# Altium schematic symbol library TIDA-PowerNBIoT.SCHLIB: 46 symbols
Pins are listed as number, name and electrical type; pins without a type are passive.

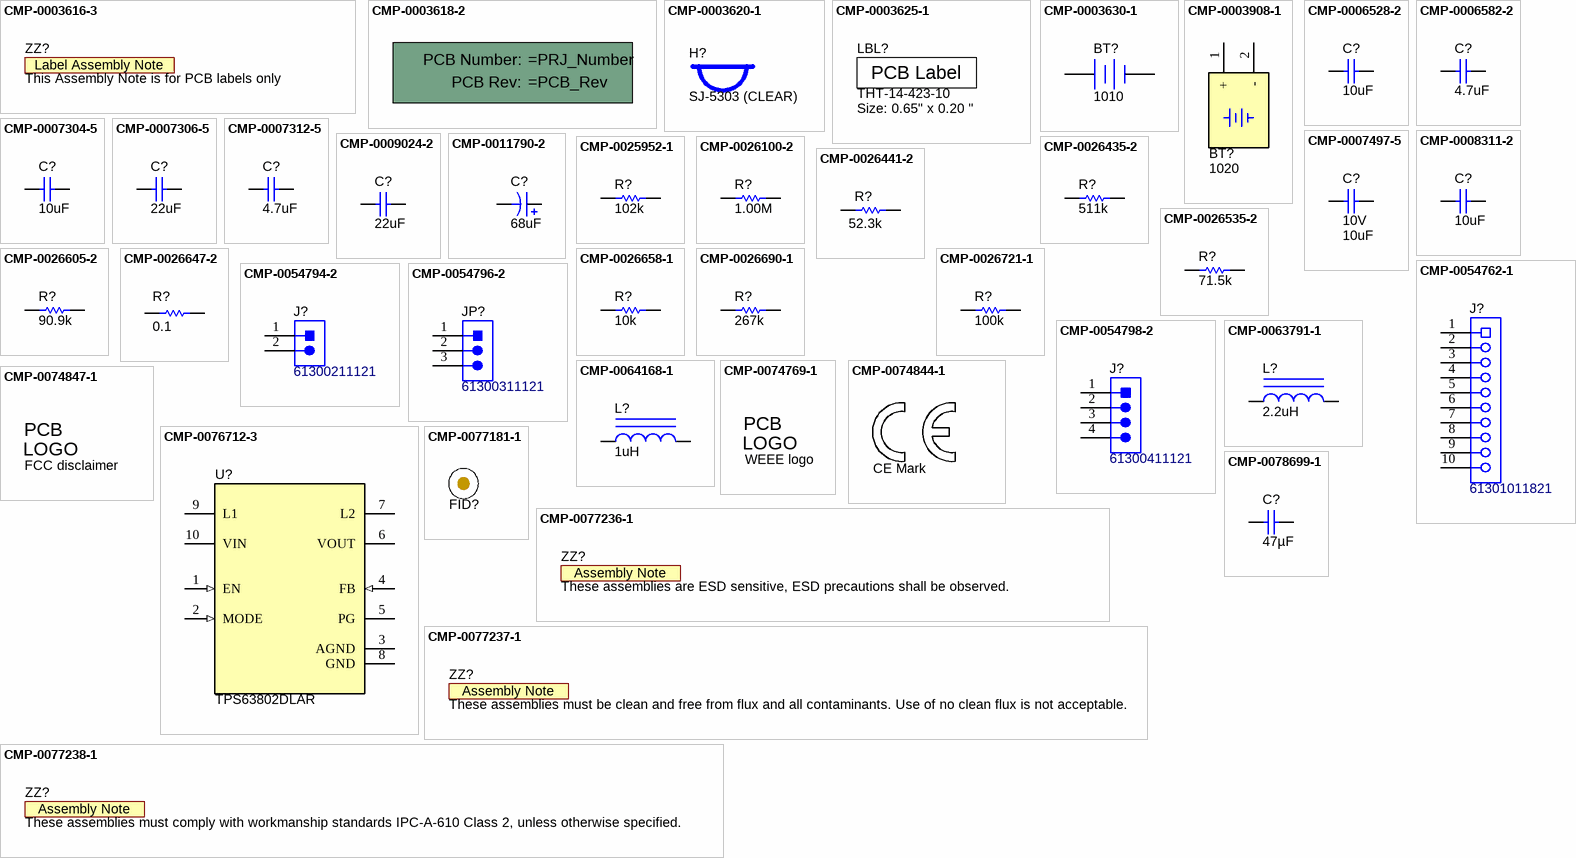
[diagram p0: symbols CMP-0003616-3 to CMP-0078699-1]

## CMP-0003616-3
designator ZZ?, comment This Assembly Note is for PCB labels only  (no BOM)
Key: AssemblyNoteLabel; CompType: AssemblyNote; ClassName: AssemblyNote; Publisher: Texas Instruments; LatestRevisionDate: 2017-03-09
footprint AssemblyNoteLabel (Assembly Note for PCB Labels)
text: Label Assembly Note

## CMP-0003618-2
designator !PCB?, comment Printed Circuit Board  (value not drawn)  (mechanical)
Manufacturer: Any; CompType: PCB; PartNumber: =PRJ_Number; RoHS: O; MountType: N/A; Publisher: Texas Instruments; LatestRevisionDate: 2017-03-09; Key: PCB
1 alternate drawing of the same symbol
text: PCB Number:; PCB Rev:

## CMP-0003620-1
designator H?, comment SJ-5303 (CLEAR)
Bumpon, Hemisphere, 0.44 X 0.20, Clear; Manufacturer: 3M; CompType: Bumpon; PartNumber: SJ-5303 (CLEAR); RoHS: Y; PackageReference: Transparent Bumpon; MountType: N/A; ComponentLink1Description: Datasheet Link; ComponentLink1URL: http://multimedia.mmm.com/mws/mediawebserver.dyn?6666660Zjcf6lVs6EVs666cIsCOrrrrQ-; Publisher: Texas Instruments; LatestRevisionDate: 2017-03-09; Supplier 1: Digi-Key; Supplier Part Number 1: SJ5303-7-ND; Supplier 2: Newark; Supplier Part Number 2: 23M7326; Supplier 3: Mouser; Supplier Part Number 3: 517-SJ-5303CL; Key: SJ-5303 (CLEAR)
footprint Bumpon_SJ5003Transparent (3M Hemispherical Bumpon transparent)

## CMP-0003625-1
designator LBL?, comment THT-14-423-10  Note: Size: 0.65" x 0.20 "
Thermal Transfer Printable Labels, 0.650" W x 0.200" H - 10,000 per roll; Manufacturer: Brady; CompType: Label; ClassName: Label; PartNumber: THT-14-423-10; RoHS: Y; PackageReference: PCB Label 0.650 x 0.200 inch; MountType: N/A; ComponentLink1Description: Web Page; ComponentLink1URL: http://www.bradyid.com/bradyid/pdpv/THT-14-423-10.html; Publisher: Texas Instruments; LatestRevisionDate: 2017-03-09; Supplier 1: Newark; Supplier Part Number 1: 97C5133; Supplier 2: Farnell; Supplier Part Number 2: 2065596; Key: THT-14-423-10
footprint Label_650x200 (Thermal Transfer Label)
text: PCB Label

## CMP-0003630-1
designator BT?, comment 1010
Battery Holder, Nylon, CR2, SMT; Manufacturer: Keystone; ComponentLink1URL: http://www.keyelco.com/userAssets/store/files/1010.pdf; Key: 1010; Publisher: Texas Instruments; Supplier Part Number 2: 534-1010; Supplier 1: Digi-Key; CompType: Battery Holder; PackageReference: Battery holder; LatestRevisionDate: 2017-03-09; RoHS: Y; Supplier Part Number 1: 36-1010-ND; MountType: SMT; Supplier 2: Mouser; PartNumber: 1010; ComponentLink1Description: Datasheet Link
footprint BAT_1010 (Keystone)
pins: 1 +, 2 -

## CMP-0003908-1
designator BT?, comment 1020
HOLDER BATTERY AAA, SMT; Manufacturer: Keystone; CompType: Battery Holder; ComponentLink1URL: http://www.keyelco.com/product-pdf.cfm?p=934; Key: 1020; Publisher: Texas Instruments; Supplier Part Number 2: 57R3959; Supplier 3: Mouser; Supplier 1: Digi-Key; PackageReference: HOLDER BATTERY AAA, SMT; LatestRevisionDate: 2017-03-09; RoHS: Y; Supplier Part Number 1: 36-1020-ND; Supplier Part Number 3: 534-1020; Supplier 2: Newark; MountType: SMT; PartNumber: 1020; ComponentLink1Description: Datasheet Link
footprint Keystone_1020 (HOLDER BATTERY AAA, SMT)
pins: 1 +, 2 -

## CMP-0006528-2
designator C?, comment ValueDisplayed: 10uF  (hidden comment: GRM155R60G106ME44D)
CAP, CERM, 10 uF, 4 V, +/- 20%, X5R, 0402; Manufacturer: MuRata; TaMin_C: -55°C; Polarized: N; SizeAreaWB_mm2: 3; Value1: Unknown; U/M: EA; Value: 10uF; TaMax_C: 85°C; SizeZ_mm: 0.7; SizeX_mm: 1; SizeY_mm: 0.5; Cap_Case: 0402; Value2: 4V; CompType: Capacitor; Cap_F: 10µF; AEC Category: Q200; Supplier Part Number 2: 81-GRM155R60G106ME4D; Publisher: Texas Instruments; Supplier 2: Mouser; TempCo: X5R; Published: 2008-06-19; RoHS: Y; MountType: SMT; Supplier 1: Digi-Key; PackageReference: 0402; Tolerance_%: 20%; SizeArea_mm2: 0.5; LatestRevisionDate: 2017-03-09; PartNumber: GRM155R60G106ME44D; AEC Qualified: N; VDC_V: 4V; ComponentLink1Description: Datasheet link; AEC Grade: N/A; Supplier Part Number 1: GRM155R60G106ME44D-ND; Technology: Ceramic; ComponentLink1URL: http://psearch.murata.com/capacitor/product/GRM155R60G106ME44%23.pdf
footprint 0402_070 (SMD, 2-Leads, Body 1.2x0.7mm, Height 0.7mm)
pins: 1, 2

## CMP-0006582-2
designator C?, comment ValueDisplayed: 4.7uF  (hidden comment: GRM155R61A475MEAAD)
CAP, CERM, 4.7 uF, 10 V, +/- 20%, X5R, 0402; Manufacturer: MuRata; TaMin_C: -55°C; Polarized: N; SizeAreaWB_mm2: 3; Value1: Unknown; U/M: EA; Value: 4.7uF; TaMax_C: 85°C; SizeZ_mm: 0.6; SizeX_mm: 1; SizeY_mm: 0.5; Cap_Case: 0402; Value2: 10V; CompType: Capacitor; Cap_F: 4.7µF; AEC Category: Q200; Publisher: Texas Instruments; TempCo: X5R; Published: 2008-06-19; RoHS: Y; MountType: SMT; PackageReference: 0402; Tolerance_%: 20%; SizeArea_mm2: 0.5; LatestRevisionDate: 2017-03-09; PartNumber: GRM155R61A475MEAAD; AEC Qualified: N; VDC_V: 10V; ComponentLink1Description: Datasheet link; AEC Grade: N/A; Technology: Ceramic; ComponentLink1URL: http://search.murata.co.jp/Ceramy/image/img/A01X/G101/ENG/GRM155R61A475MEAA-01.pdf
footprint 0402 (0402 from SM-752 data)
footprint 0402S (Based on C0402S footprint from PADS legacy)
footprint 0402L (0402 from SM-752 data)
footprint 0402M (0402 from SM-752 data)
pins: 1, 2

## CMP-0007304-5
designator C?, comment ValueDisplayed: 10uF  (hidden comment: Capacitor)
CAP, CERM, 10 uF, 6.3 V, +/- 20%, X5R, 0603; PartNumber: GRM188R60J106ME84; Manufacturer: MuRata; Polarized: N; Value: 10uF; U/M: EA; Cap_F: 10µF; Value1: Unknown; VDC_V: 6.3V; TaMin_C: -55°C; TaMax_C: 85°C; Cap_Case: 0603; SizeArea_mm2: 1.28; SizeAreaWB_mm2: 4.68; SizeX_mm: 1.6; SizeY_mm: 0.8; SizeZ_mm: 1; AEC Category: Q200; CompType: Capacitor; PackageReference: 0603; RoHS: Y; Tolerance_%: 20%; Value2: 6.3V; MountType: SMT; Technology: Ceramic; TempCo: X5R; Published: 2008-06-19; Publisher: Texas Instruments; LatestRevisionDate: 2017-03-09; ComponentLink1Description: Datasheet link; ComponentLink1URL: http://search.murata.co.jp/Ceramy/image/img/A01X/G101/ENG/GRM188R60J106ME84-01.pdf; Supplier 1: Digi-Key; Supplier Part Number 1: 490-7316-1-ND; AEC Qualified: ?
footprint 0603 (0603 from SM-752 data)
footprint 0603_HV (Ernesto recommended land pattern.  26 mil between pads.)
footprint 0603L (0603 from SM-752 data)
footprint 0603S
footprint 0603M (0603 from SM-752 data)
pins: 1, 2

## CMP-0007306-5
designator C?, comment ValueDisplayed: 22uF  (hidden comment: Capacitor)
CAP, CERM, 22 uF, 6.3 V, +/- 20%, X5R, 0603; PartNumber: GRM188R60J226MEA0D; Manufacturer: MuRata; Polarized: N; Value: 22uF; U/M: EA; Cap_F: 22µF; Value1: Unknown; VDC_V: 6.3V; TaMin_C: -55°C; TaMax_C: 85°C; Cap_Case: 0603; SizeArea_mm2: 1.28; SizeAreaWB_mm2: 4.68; SizeX_mm: 1.6; SizeY_mm: 0.8; SizeZ_mm: 1; AEC Category: Q200; CompType: Capacitor; PackageReference: 0603; RoHS: Y; Tolerance_%: 20%; Value2: 6.3V; MountType: SMT; Technology: Ceramic; TempCo: X5R; Published: 2008-06-19; Publisher: Texas Instruments; LatestRevisionDate: 2017-03-09; ComponentLink1Description: Datasheet link; ComponentLink1URL: http://search.murata.co.jp/Ceramy/image/img/A01X/G101/ENG/GRM188R60J226MEA0-01.pdf; Supplier 1: Digi-Key; Supplier Part Number 1: 490-7611-1-ND; Supplier 2: Newark; Supplier Part Number 2: 55Y9854; Supplier 3: Mouser; Supplier Part Number 3: 81-GRM188R60J226ME0D; AEC Qualified: N; AEC Grade: N/A
footprint 0603 (0603 from SM-752 data)
footprint 0603_HV (Ernesto recommended land pattern.  26 mil between pads.)
footprint 0603L (0603 from SM-752 data)
footprint 0603S
footprint 0603M (0603 from SM-752 data)
pins: 1, 2

## CMP-0007312-5
designator C?, comment ValueDisplayed: 4.7uF  (hidden comment: GRM188R60J475ME19D)
CAP, CERM, 4.7 uF, 6.3 V, +/- 20%, X5R, 0603; Manufacturer: MuRata; Polarized: N; CompType: Capacitor; Value: 4.7uF; U/M: EA; Cap_F: 4.7µF; ESR_ohm: 1m; Value1: 0.001 ohm; VDC_V: 6.3V; TaMin_C: -55°C; TaMax_C: 85°C; Cap_Case: 0603; SizeArea_mm2: 1.28; SizeAreaWB_mm2: 4.68; SizeX_mm: 1.6; SizeY_mm: 0.8; SizeZ_mm: 1; AEC Category: Q200; PartNumber: GRM188R60J475ME19D; PackageReference: 0603; RoHS: Y; Tolerance_%: 20%; Value2: 6.3V; MountType: SMT; Technology: Ceramic; TempCo: X5R; Published: 2008-06-19; Publisher: Texas Instruments; LatestRevisionDate: 2017-03-09; ComponentLink1Description: Datasheet link; ComponentLink1URL: http://search.murata.co.jp/Ceramy/image/img/PDF/ENG/GRM188R60J475ME19.pdf; Supplier 1: Digi-Key; Supplier Part Number 1: 490-5421-1-ND; Supplier 2: Mouser; Supplier Part Number 2: 81-GRM188R60J475ME9D; AEC Qualified: ?
footprint 0603 (0603 from SM-752 data)
footprint 0603_HV (Ernesto recommended land pattern.  26 mil between pads.)
footprint 0603L (0603 from SM-752 data)
footprint 0603S
footprint 0603M (0603 from SM-752 data)
pins: 1, 2

## CMP-0007497-5
designator C?, comment VDC_V: 10V  ValueDisplayed: 10uF  (hidden comment: GRM188Z71A106MA73D)
CAP, CERM, 10 uF, 10 V, +/- 20%, X7R, 0603; Manufacturer: MuRata; TaMin_C: -55°C; Polarized: N; SizeAreaWB_mm2: 4.68; Value1: Unknown; U/M: EA; Value: 10uF; TaMax_C: 125°C; SizeZ_mm: 1; SizeX_mm: 1.6; SizeY_mm: 0.8; Cap_Case: 0603; SizeArea_mm2: 1.28; CompType: Capacitor; Cap_F: 10µF; AEC Category: Q200; Publisher: Texas Instruments; TempCo: X7R; Published: 2008-06-19; RoHS: Y; MountType: SMT; Supplier 1: Mouser; PackageReference: 0603; Tolerance_%: 20%; Value2: 10V; LatestRevisionDate: 2017-03-09; PartNumber: GRM188Z71A106MA73D; AEC Qualified: N; ComponentLink1Description: Datasheet link; AEC Grade: N/A; Supplier Part Number 1: 81-GRM188Z71A106MA3D; Technology: Ceramic; ComponentLink1URL: http://psearch.en.murata.com/capacitor/product/GRM188Z71A106MA73%23.pdf
footprint 0603 (0603 from SM-752 data)
footprint 0603_HV (Ernesto recommended land pattern.  26 mil between pads.)
footprint 0603L (0603 from SM-752 data)
footprint 0603S
footprint 0603M (0603 from SM-752 data)
pins: 1, 2

## CMP-0008311-2
designator C?, comment ValueDisplayed: 10uF  (hidden comment: GRM21BR70J106KE76L)
CAP, CERM, 10 uF, 6.3 V, +/- 10%, X7R, 0805; Manufacturer: MuRata; Polarized: N; CompType: Capacitor; Value: 10uF; U/M: EA; Cap_F: 10µF; Value1: Unknown; VDC_V: 6.3V; TaMin_C: -55°C; TaMax_C: 125°C; Cap_Case: 0805; SizeArea_mm2: 2.5; SizeAreaWB_mm2: 6.75; SizeX_mm: 2; SizeY_mm: 1.25; SizeZ_mm: 1.45; AEC Category: Q200; PartNumber: GRM21BR70J106KE76L; PackageReference: 0805; RoHS: Y; Tolerance_%: 10%; Value2: 6.3V; MountType: SMT; Technology: Ceramic; TempCo: X7R; Published: 2008-06-19; Publisher: Texas Instruments; LatestRevisionDate: 2017-03-09; ComponentLink1Description: Datasheet link; ComponentLink1URL: http://search.murata.co.jp/Ceramy/PnsearchViewAction.do?HnOFG=ON&HnNFG=ON&SEL_CNT=50&sLang=en&sKey=GRM21BR70J106KE76L&x=9&y=9&search=startwith; Supplier 1: Digi-Key; Supplier Part Number 1: 490-3904-1-ND; Supplier 2: Mouser; Supplier Part Number 2: 81-GRM21BR70J106KE76; Supplier 3: Farnell; Supplier Part Number 3: 1845768; AEC Qualified: ?
footprint 0805_HV (0805 with 30mil clearance between pads)
footprint 0805M (0805 from SM-752 data)
footprint 0805 (0805 from SM-752 data)
footprint 0805L (0805 from SM-752 data)
footprint 0805_HV1 (Custom footprint based on analyzing multiple manufacturer recommendations)
pins: 1, 2

## CMP-0009024-2
designator C?, comment ValueDisplayed: 22uF  (hidden comment: Capacitor)
CAP, CERM, 22 uF, 25 V, +/- 20%, X5R, 1206_190; PartNumber: TMK316BBJ226ML-T; Manufacturer: Taiyo Yuden; Polarized: N; Value: 22uF; U/M: EA; Cap_F: 22µF; Value1: Unknown; VDC_V: 25V; TaMin_C: -55°C; TaMax_C: 85°C; Cap_Case: 1206; AEC Category: Q200; SizeArea_mm2: 5.12; SizeAreaWB_mm2: 10.92; SizeX_mm: 3.2; SizeY_mm: 1.6; SizeZ_mm: 1.9; CompType: Capacitor; PackageReference: 1206_190; RoHS: Y; Tolerance_%: 20%; Value2: 25V; MountType: SMT; Technology: Ceramic; TempCo: X5R; Published: 2008-06-19; Publisher: Texas Instruments; LatestRevisionDate: 2017-03-09; ComponentLink1Description: Datasheet link; ComponentLink1URL: http://www.yuden.co.jp/productdata/catalog/en/mlcc_all_e.pdf; Supplier 1: Digi-Key; Supplier Part Number 1: 587-3246-1-ND; Supplier 2: Newark; Supplier Part Number 2: 29X1397; Supplier 3: Mouser; Supplier Part Number 3: 963-TMK316BBJ226ML-T; AEC Grade: N/A; AEC Qualified: N
footprint 1206_190
footprint 1206_190L (1206_190)
footprint 1206_190M (1206_190)
pins: 1, 2

## CMP-0011790-2
designator C?, comment ValueDisplayed: 68uF  (hidden comment: Cap_Polarized)
CAP, TA, 68 uF, 20 V, +/- 10%, 0.15 ohm, SMD; PartNumber: T495D686K020ATE150; Manufacturer: Kemet; Polarized: Y; CompType: Capacitor; Value: 68uF; U/M: EA; Cap_F: 68µF; VDC_V: 20V; ESR_ohm: 1.5d; IRMS_A: 9dA; TaMin_C: -55°C; TaMax_C: 125°C; Cap_Case: D; AEC Category: Q200; SizeArea_mm2: 31.39; SizeAreaWB_mm2: 58.59; SizeX_mm: 7.3; SizeY_mm: 4.3; SizeZ_mm: 3.1; PackageReference: 7343-31; RoHS: Y; Tolerance_%: 10%; Value1: 0.15 ohm; Value2: 20V; MountType: SMT; Technology: TA; Series: T495; Publisher: Texas Instruments; LatestRevisionDate: 2017-03-09; LatestRevisionNote: Updated supplier links; ComponentLink1Description: Datasheet link; ComponentLink1URL: http://www.kemet.com/Lists/ProductCatalog/Attachments/261/KEM_T2009_T495.pdf; Supplier 1: Digi-Key; Supplier Part Number 1: 399-3890-1-ND; Supplier 2: Newark; Supplier Part Number 2: 40K1101; Supplier 3: Mouser; Supplier Part Number 3: 80-T495D686K20ATE150; AEC Qualified: ?
footprint 7343-31 (Medium Density based on Kemet T495 dimensions)
pins: 1 +, 2 -

## CMP-0025952-1
designator R?, comment ValueDisplayed: 102k  (hidden comment: CRCW0402102KFKED)
RES, 102 k, 1%, 0.063 W, 0402; Manufacturer: Vishay-Dale; Power_W: 63mW; TempCo: 100 ppm/C; U/M: EA; Value: 102k; EIA_Code: E96; SizeX_mm: 1; SizeY_mm: 0.5; SizeZ_mm: 0.6; Value2: 0.063W; CompType: Resistor; VDC_V: 50V; AEC Category: Q200; ComponentLink1URL: http://www.vishay.com/docs/20035/dcrcwe3.pdf; Supplier Part Number 2: 52K6611; Publisher: Texas Instruments; Supplier 2: Newark; Supplier Part Number 3: 71-CRCW0402-102K-E3; Supplier 3: Mouser; Published: 2008-06-26; Value_Code: 102k; RoHS: Y; Value1: 1%; MountType: SMT; Supplier 1: Digi-Key; PackageReference: 0402; Tolerance_%: 1%; Res_ohm: 102k; SizeArea_mm2: 0.5; LatestRevisionDate: 2017-03-09; PartNumber: CRCW0402102KFKED; AEC Qualified: ?; ComponentLink1Description: Datasheet link; Supplier Part Number 1: 541-102KLCT-ND; Technology: Thick Film
footprint 0402 (0402 from SM-752 data)
footprint 0402S (Based on C0402S footprint from PADS legacy)
footprint 0402L (0402 from SM-752 data)
footprint 0402M (0402 from SM-752 data)
pins: 1, 2

## CMP-0026100-2
designator R?, comment ValueDisplayed: 1.00M  (hidden comment: CRCW04021M00FKED)
RES, 1.00 M, 1%, 0.063 W, AEC-Q200 Grade 0, 0402; Manufacturer: Vishay-Dale; Power_W: 63mW; TempCo: 100 ppm/C; Value_Code: 1M00; Value: 1.00Meg; EIA_Code: E96; Res_ohm: 1M; SizeX_mm: 1; SizeY_mm: 0.5; SizeZ_mm: 0.6; Value2: 0.063W; CompType: Resistor; AEC Qualified: Y; VDC_V: 50V; AEC Category: Q200; AEC Grade: 0; ComponentLink1URL: http://www.vishay.com/docs/20035/dcrcwe3.pdf; Supplier Part Number 2: 52K6593; Supplier 2: Newark; Supplier Part Number 3: 71-CRCW0402-1.0M-E3; Supplier 3: Mouser; RoHS: E; Value1: 1%; MountType: SMT; Supplier 1: Digi-Key; PackageReference: 0402; Tolerance_%: 1%; SizeArea_mm2: 0.5; PartNumber: CRCW04021M00FKED; ComponentLink1Description: Datasheet link; Supplier Part Number 1: 541-1.00MLCT-ND; Technology: Thick Film
footprint 0402 (0402 from SM-752 data)
footprint 0402S (Based on C0402S footprint from PADS legacy)
footprint 0402L (0402 from SM-752 data)
footprint 0402M (0402 from SM-752 data)
pins: 1, 2

## CMP-0026435-2
designator R?, comment ValueDisplayed: 511k  (hidden comment: CRCW0402511KFKED)
RES, 511 k, 1%, 0.063 W, AEC-Q200 Grade 0, 0402; Manufacturer: Vishay-Dale; Power_W: 63mW; TempCo: 100 ppm/C; Value: 511k; EIA_Code: E96; SizeX_mm: 1; SizeY_mm: 0.5; SizeZ_mm: 0.6; Value2: 0.063W; CompType: Resistor; AEC Qualified: Y; VDC_V: 50V; AEC Category: Q200; AEC Grade: 0; ComponentLink1URL: http://www.vishay.com/docs/20035/dcrcwe3.pdf; Supplier Part Number 2: 52K7134; Supplier 2: Newark; Supplier Part Number 3: 71-CRCW0402-511K-E3; Supplier 3: Mouser; Value_Code: 511k; RoHS: E; Value1: 1%; MountType: SMT; Supplier 1: Digi-Key; PackageReference: 0402; Tolerance_%: 1%; Res_ohm: 511k; SizeArea_mm2: 0.5; PartNumber: CRCW0402511KFKED; ComponentLink1Description: Datasheet link; Supplier Part Number 1: 541-511KLCT-ND; Technology: Thick Film
footprint 0402 (0402 from SM-752 data)
footprint 0402S (Based on C0402S footprint from PADS legacy)
footprint 0402L (0402 from SM-752 data)
footprint 0402M (0402 from SM-752 data)
pins: 1, 2

## CMP-0026441-2
designator R?, comment ValueDisplayed: 52.3k  (hidden comment: CRCW040252K3FKED)
RES, 52.3 k, 1%, 0.063 W, AEC-Q200 Grade 0, 0402; Manufacturer: Vishay-Dale; Power_W: 63mW; TempCo: 100 ppm/C; Value_Code: 52k3; Value: 52.3k; EIA_Code: E96; SizeX_mm: 1; SizeY_mm: 0.5; SizeZ_mm: 0.6; Value2: 0.063W; CompType: Resistor; AEC Qualified: Y; VDC_V: 50V; AEC Category: Q200; AEC Grade: 0; ComponentLink1URL: http://www.vishay.com/docs/20035/dcrcwe3.pdf; Supplier Part Number 2: 52K7137; Supplier 2: Newark; Supplier Part Number 3: 71-CRCW0402-52.3K-E3; Supplier 3: Mouser; RoHS: E; Value1: 1%; MountType: SMT; Supplier 1: Digi-Key; PackageReference: 0402; Tolerance_%: 1%; Res_ohm: 52.3k; SizeArea_mm2: 0.5; PartNumber: CRCW040252K3FKED; ComponentLink1Description: Datasheet link; Supplier Part Number 1: 541-52.3KLCT-ND; Technology: Thick Film
footprint 0402 (0402 from SM-752 data)
footprint 0402S (Based on C0402S footprint from PADS legacy)
footprint 0402L (0402 from SM-752 data)
footprint 0402M (0402 from SM-752 data)
pins: 1, 2

## CMP-0026535-2
designator R?, comment ValueDisplayed: 71.5k  (hidden comment: CRCW040271K5FKED)
RES, 71.5 k, 1%, 0.063 W, AEC-Q200 Grade 0, 0402; Manufacturer: Vishay-Dale; Power_W: 63mW; TempCo: 100 ppm/C; Value_Code: 71k5; Value: 71.5k; EIA_Code: E96; SizeX_mm: 1; SizeY_mm: 0.5; SizeZ_mm: 0.6; Value2: 0.063W; CompType: Resistor; AEC Qualified: Y; VDC_V: 50V; AEC Category: Q200; AEC Grade: 0; ComponentLink1URL: http://www.vishay.com/docs/20035/dcrcwe3.pdf; Supplier Part Number 2: 52K7250; Supplier 2: Newark; Supplier Part Number 3: 71-CRCW0402-71.5K-E3; Supplier 3: Mouser; RoHS: E; Value1: 1%; MountType: SMT; Supplier 1: Digi-Key; PackageReference: 0402; Tolerance_%: 1%; Res_ohm: 71.5k; SizeArea_mm2: 0.5; PartNumber: CRCW040271K5FKED; ComponentLink1Description: Datasheet link; Supplier Part Number 1: 541-71.5KLCT-ND; Technology: Thick Film
footprint 0402 (0402 from SM-752 data)
footprint 0402S (Based on C0402S footprint from PADS legacy)
footprint 0402L (0402 from SM-752 data)
footprint 0402M (0402 from SM-752 data)
pins: 1, 2

## CMP-0026605-2
designator R?, comment ValueDisplayed: 90.9k  (hidden comment: CRCW040290K9FKED)
RES, 90.9 k, 1%, 0.063 W, AEC-Q200 Grade 0, 0402; Manufacturer: Vishay-Dale; Power_W: 63mW; TempCo: 100 ppm/C; Value_Code: 90k9; Value: 90.9k; EIA_Code: E96; SizeX_mm: 1; SizeY_mm: 0.5; SizeZ_mm: 0.6; Value2: 0.063W; CompType: Resistor; AEC Qualified: Y; VDC_V: 50V; AEC Category: Q200; AEC Grade: 0; ComponentLink1URL: http://www.vishay.com/docs/20035/dcrcwe3.pdf; Supplier Part Number 2: 52K7338; Supplier 2: Newark; Supplier Part Number 3: 71-CRCW0402-90.9K-E3; Supplier 3: Mouser; RoHS: E; Value1: 1%; MountType: SMT; Supplier 1: Digi-Key; PackageReference: 0402; Tolerance_%: 1%; Res_ohm: 90.9k; SizeArea_mm2: 0.5; PartNumber: CRCW040290K9FKED; ComponentLink1Description: Datasheet link; Supplier Part Number 1: 541-90.9KLCT-ND; Technology: Thick Film
footprint 0402 (0402 from SM-752 data)
footprint 0402S (Based on C0402S footprint from PADS legacy)
footprint 0402L (0402 from SM-752 data)
footprint 0402M (0402 from SM-752 data)
pins: 1, 2

## CMP-0026647-2
designator R?, comment ValueDisplayed: 0.1  (hidden comment: ERJ-2BSFR10X)
RES, 0.1, 1%, 0.125 W, AEC-Q200 Grade 0, 0402; Manufacturer: Panasonic; Power_W: 125mW; TempCo: 300 ppm/C; Value_Code: R100; Value: 0.1; EIA_Code: E96; SizeX_mm: 1; SizeY_mm: 0.5; SizeZ_mm: 0.6; Value2: 0.125W; CompType: Resistor; AEC Qualified: Y; AEC Category: Q200; AEC Grade: 0; SizeAreaWB_mm2: 3; ComponentLink1URL: https://industrial.panasonic.com/cdbs/www-data/pdf/RDN0000/AOA0000C313.pdf; Supplier Part Number 2: 667-ERJ-2BSFR10X; Supplier 2: Mouser; RoHS: Y; Value1: 1%; MountType: SMT; Supplier 1: Digi-Key; PackageReference: 0402; Tolerance_%: 1%; Res_ohm: 0.1; SizeArea_mm2: 0.5; PartNumber: ERJ-2BSFR10X; ComponentLink1Description: Datasheet link; Supplier Part Number 1: P.10AKCT-ND; Technology: Thick Film
footprint 0402 (0402 from SM-752 data)
footprint 0402M (0402 from SM-752 data)
footprint 0402L (0402 from SM-752 data)
footprint 0402S (Based on C0402S footprint from PADS legacy)
pins: 1, 2

## CMP-0026658-1
designator R?, comment Res_ohm: 10k  (hidden comment: ERJ-2RKF1002X)
RES, 10.0 k, 1%, 0.1 W, 0402; Manufacturer: Panasonic; Power_W: 100mW; TempCo: 100 ppm/C; Value_Code: 10k0; U/M: EA; Value: 10.0k; EIA_Code: E96; SizeX_mm: 1; SizeY_mm: 0.5; SizeZ_mm: 0.6; Value2: 0.1W; CompType: Resistor; VDC_V: 50V; AEC Category: Q200; ComponentLink1URL: http://industrial.panasonic.com/www-data/pdf/AOA0000/AOA0000CE2.pdf; Supplier Part Number 2: 90W2949; Publisher: Texas Instruments; Supplier 2: Newark; Supplier Part Number 3: 667-ERJ-2RKF1002X; Supplier 3: Mouser; Published: 2008-06-26; RoHS: Y; Value1: 1%; MountType: SMT; Supplier 1: Digi-Key; PackageReference: 0402; Tolerance_%: 1%; SizeArea_mm2: 0.5; LatestRevisionDate: 2017-03-09; PartNumber: ERJ-2RKF1002X; AEC Qualified: ?; ComponentLink1Description: Datasheet link; Supplier Part Number 1: P10.0KLCT-ND; Technology: Thick Film; ValueDisplayed: 10.0k
footprint 0402 (0402 from SM-752 data)
footprint 0402S (Based on C0402S footprint from PADS legacy)
footprint 0402L (0402 from SM-752 data)
footprint 0402M (0402 from SM-752 data)
pins: 1, 2

## CMP-0026690-1
designator R?, comment ValueDisplayed: 267k  (hidden comment: ERJ-2RKF2673X)
RES, 267 k, 1%, 0.1 W, AEC-Q200 Grade 0, 0402; Manufacturer: Panasonic; Power_W: 100mW; TempCo: 100 ppm/C; U/M: EA; Value: 267k; EIA_Code: E96; SizeX_mm: 1; SizeY_mm: 0.5; SizeZ_mm: 0.6; Value2: 0.1W; CompType: Resistor; AEC Qualified: Y; VDC_V: 50V; AEC Grade: 0; AEC Category: Q200; ComponentLink1URL: http://industrial.panasonic.com/cdbs/www-data/pdf/RDA0000/AOA0000CE2.pdf; Supplier Part Number 2: 53W4303; Publisher: Texas Instruments; Supplier 2: Newark; Supplier Part Number 3: 667-ERJ-2RKF2673X; Supplier 3: Mouser; Published: 2008-06-26; Value_Code: 267k; RoHS: Y; Value1: 1%; MountType: SMT; Supplier 1: Digi-Key; PackageReference: 0402; Tolerance_%: 1%; Res_ohm: 267k; SizeArea_mm2: 0.5; LatestRevisionDate: 2017-03-09; PartNumber: ERJ-2RKF2673X; ComponentLink1Description: Datasheet link; Supplier Part Number 1: P267KLCT-ND; Technology: Thick Film
footprint 0402 (0402 from SM-752 data)
footprint 0402S (Based on C0402S footprint from PADS legacy)
footprint 0402L (0402 from SM-752 data)
footprint 0402M (0402 from SM-752 data)
pins: 1, 2

## CMP-0026721-1
designator R?, comment ValueDisplayed: 100k  (hidden comment: RC0402FR-07100KL)
RES, 100 k, 1%, 0.0625 W, 0402; Manufacturer: Yageo America; Power_W: 62.5mW; TempCo: 100 ppm/C; U/M: EA; Value: 100k; EIA_Code: E96; SizeX_mm: 1; SizeY_mm: 0.5; SizeZ_mm: 0.6; CompType: Resistor; AEC Qualified: N; VDC_V: 50V; AEC Category: Q200; ComponentLink1URL: http://www.yageo.com/documents/recent/PYu-RC0402_51_RoHS_L_6_r.pdf; Supplier Part Number 2: 67R9887; Publisher: Texas Instruments; Supplier 2: Newark; Supplier Part Number 3: 603-RC0402FR-07100KL; Supplier 3: Mouser; Published: 2008-06-26; Value_Code: 100k; RoHS: Y; Value1: 1%; MountType: SMT; Supplier 1: Digi-Key; PackageReference: 0402; Tolerance_%: 1%; Res_ohm: 100k; Value2: 0.0625W; SizeArea_mm2: 0.5; LatestRevisionDate: 2017-03-09; PartNumber: RC0402FR-07100KL; ComponentLink1Description: Datasheet link; AEC Grade: N/A; Supplier Part Number 1: 311-100KLRCT-ND; Technology: Thick Film
footprint 0402 (0402 from SM-752 data)
footprint 0402S (Based on C0402S footprint from PADS legacy)
footprint 0402L (0402 from SM-752 data)
footprint 0402M (0402 from SM-752 data)
pins: 1, 2

## CMP-0054762-1
designator J?, comment 61301011821
Receptacle, 2.54mm, 10x1, Gold, TH; Manufacturer: Wurth Elektronik; CNHeader: FALSE; Current_A: 3A; Gender: Female; Cert_CSA: Y; Voltage_V: 250V; Row_Count: 1; Pitch_mm: 2.54; ComponentLink1URL: http://katalog.we-online.de/em/datasheet/6130xx11821.pdf; Supplier Part Number 2: 16T0628; Publisher: Texas Instruments; Supplier 2: Newark; Supplier Part Number 3: 710-61301011821; Color: Black; Supplier 3: Mouser; RoHS: Y; MountType: TH; Supplier 1: Digi-Key; PackageReference: Receptacle, 2.54mm, 10x1, TH; PinCount: 10; CompType: Receptacle; LatestRevisionDate: 26/05/2017; PartNumber: 61301011821; Orientation: Vertical; ComponentLink1Description: Datasheet URL; Supplier Part Number 1: 732-2859-ND; ContactFinish: Gold; CT: FALSE
footprint Wurth_61301011821 (Receptacle, 2.54mm, 10x1, TH)
pins: 1, 2, 3, 4, 5, 6, 7, 8, 9, 10

## CMP-0054794-2
designator J?, comment 61300211121
Header, 2.54 mm, 2x1, Gold, TH; Manufacturer: Wurth Elektronik; Shrouded: N; Gender: Male; Green_REACh: Passed; Pitch_mm: 2.54; Green_Lifecycle: Active; Row_Count: 1; Cert_UL: Y; Supplier Part Number 2: 20X0948; Orientation: Vertical; PinCount: 2; ClassName: Header; Supplier 2: Newark; PackageReference: Header, 2.54mm, 2x1, TH; CompType: Header; ComponentLink1Description: Datasheet URL; Supplier 1: Digi-Key; Green_EU RoHS-2: Incomplete; ComponentLink1URL: http://katalog.we-online.de/em/datasheet/6130xx11121.pdf; Green_EU RoHS: Passed; MountType: TH; Supplier Part Number 3: 710-61300211121; RoHS: Y; Supplier Part Number 1: 732-5315-ND; ContactFinish: Gold; Supplier 3: Mouser; PartNumber: 61300211121; Color: Black
footprint WURTH_61300211121 (Header, 2.54mm, 2x1, TH)
pins: 1, 2
1 alternate drawing of the same symbol

## CMP-0054796-2
designator JP?, comment 61300311121
Header, 2.54 mm, 3x1, Gold, TH; Manufacturer: Wurth Elektronik; Pitch_mm: 2.54; Green_Lifecycle: Active; Cert_UL: Y; Shrouded: N; Green_REACh: Passed; Gender: Male; Row_Count: 1; MountType: TH; Supplier Part Number 1: 732-5316-ND; PinCount: 3; Color: Black; ClassName: Header; Supplier Part Number 3: 356154; ContactFinish: Gold; ComponentLink1Description: Datasheet URL; ComponentLink1URL: http://katalog.we-online.de/em/datasheet/6130xx11121.pdf; PackageReference: Header, 2.54mm, 3x1, TH; Supplier Part Number 2: 20X0950; Green_EU RoHS-2: Incomplete; CompType: Header; Green_EU RoHS: Passed; Orientation: Vertical; RoHS: Y; PartNumber: 61300311121; Supplier 2: Newark; Supplier 1: Digi-Key; Supplier 3: Farnell
footprint WURTH_61300311121 (Header, 2.54mm, 3x1, TH)
pins: 1, 2, 3
3 alternate drawings of the same symbol

## CMP-0054798-2
designator J?, comment 61300411121
Header, 2.54 mm, 4x1, Gold, TH; Manufacturer: Wurth Elektronik; Pitch_mm: 2.54; Gender: Male; Row_Count: 1; Cert_UL: Y; Shrouded: N; Supplier Part Number 3: 2356155; ClassName: Header; MountType: TH; ComponentLink1Description: Datasheet URL; PartNumber: 61300411121; PackageReference: Header, 2.54mm, 4x1, TH; Color: Black; Supplier 3: Farnell; Supplier Part Number 1: 732-5317-ND; Supplier 2: Newark; ComponentLink1URL: http://katalog.we-online.de/em/datasheet/6130xx11121.pdf; CompType: Header; PinCount: 4; Supplier 1: Digi-Key; RoHS: Y; ContactFinish: Gold; Supplier Part Number 2: 20X0951; Orientation: Vertical
footprint WURTH_61300411121 (Header, 2.54mm, 4x1, TH)
pins: 1, 2, 3, 4

## CMP-0063791-1
designator L?, comment ValueDisplayed: 2.2uH  (hidden comment: 74404024022)
Inductor, Wirewound, Ferrite, 2.2 uH, 1.8 A, 0.08 ohm, SMD; Manufacturer: Wurth Elektronik; Isat: 1.95A @ 30% inductance drop; Irms: 1.8A @ 40C rise; Green_Lifecycle: Active; SizeAreaWB_mm2: 10.5; DCR_ohm: 0.08; Green_REACh: Passed; Value: 2.2uH; Imax_A: 1.8A; SizeZ_mm: 1.2; SizeX_mm: 2.5; SizeY_mm: 2; SizeArea_mm2: 5; Ind_H: 2.2µH; AEC Qualified: N; AEC Category: Q200; ComponentLink1URL: http://katalog.we-online.de/pbs/datasheet/74404024022.pdf; Supplier Part Number 2: 75X1095; Publisher: Texas Instruments; Supplier 2: Newark; Supplier Part Number 3: 710-74404024022; Supplier 3: Mouser; Published: 2008-06-26; RoHS: Y; Value1: 0.08 ohm; Material: Ferrite; MountType: SMT; Green_EU RoHS-2: Incomplete; Supplier 1: Digi-Key; Green_EU RoHS: Passed; PackageReference: SMD, 2.5x2mm; Value2: 1.8A; CompType: Inductor; LatestRevisionDate: 2017-06-02; PartNumber: 74404024022; ComponentLink1Description: Datasheet link; AEC Grade: N/A; Supplier Part Number 1: 732-5436-1-ND; Technology: Wirewound
footprint WE_LQS_252012 (SMD, 2-Leads, Body 2.5x2mm, Pitch 1.9mm)
pins: 1, 2

## CMP-0064168-1
designator L?, comment ValueDisplayed: 1uH  (hidden comment: 74438356010)
Inductor, Shielded, 1 uH, 7.2 A, 0.012 ohm, SMD; Manufacturer: Wurth Elektronik; Isat: 9A @ 20% inductance drop; Irms: 7.2A @ 40C rise; Green_Lifecycle: Active; SizeAreaWB_mm2: 26.01; DCR_ohm: 0.012; Green_REACh: Passed; Value: 1uH; Imax_A: 7.2A; SizeZ_mm: 2.1; SizeX_mm: 4.1; SizeArea_mm2: 16.81; Ind_H: 1µH; AEC Qualified: N; AEC Category: Q200; ComponentLink1URL: https://sps06.itg.ti.com/sites/KMS/crossdivteams/altium/docs/ComponentDatasheets/74438356010 Wurth.pdf; Publisher: Texas Instruments; Published: 2008-06-26; RoHS: Y; Value1: 0.012 ohm; Material: ?; MountType: SMT; Green_EU RoHS-2: Incomplete; Green_EU RoHS: Passed; PackageReference: 4.1x4.1mm; SizeY_mm: 4.1; Value2: 7.2A; CompType: Inductor; LatestRevisionDate: 2017-06-02; PartNumber: 74438356010; ComponentLink1Description: Datasheet link; AEC Grade: N/A; Technology: Shielded
footprint WE-MAPI_4020 (SMD, 2-Leads, Body 4.1x4.1mm)
pins: 1, 2

## CMP-0074769-1
designator Logo?, comment WEEE logo  (no BOM)
Library Reference: WEEE logo; Lib Reference: WEEE logo; PartNumber: WEEE logo
footprint WEEE_Minimum (WEEElie bin)
text: PCB; LOGO

## CMP-0074844-1
designator Logo?, comment CE Mark  (no BOM)
SymbolCreator: a0412235; Published: 2009-03-03; Publisher: Texas Instruments; LatestRevisionDate: 2017-07-06; Lib Reference: CE Mark; PartNumber: CE Mark; Library Reference: CE Mark
footprint CE_Mark_5mm (Minimum text height for CE Mark)
footprint CE_Mark_10mm (Double the minimum text height for CE Mark)

## CMP-0074847-1
designator Logo?, comment FCC disclaimer  (no BOM)
FCC_disclaimer; Library Reference: Logo; Published: 2009-03-03; Publisher: Texas Instruments; LatestRevisionDate: 2017-07-06; Lib Reference: FCC_disclaimer; PartNumber: FCC disclaimer
footprint FCC_disclaimer
footprint FCC_disclaimer_stacked
text: PCB; LOGO

## CMP-0076712-3
designator U?, comment TPS63802DLAR
High Current, High Efficiency Single Inductor Buck-Boost Converter, DLA0010A (VQFN-HR-10); Manufacturer: Texas Instruments; Alternate PartNumber: TPS63802DLAT; SizeX_mm: 2.0; SizeY_mm: 3.0; CompType: IC; SizeZ_mm: 1.0; SizeArea_mm2: 6.0; SizeAreaWB_mm2: 12.0; U/M: EA; PackageDescription: VQFN-HR-10; PartNumber: TPS63802DLAR; ComponentLink1URL: https://sps06.itg.ti.com/sites/KMS/crossdivteams/altium/docs/ComponentDatasheets/TPS63802_pinout.PNG; ComponentLink1Description: Datasheet Link; LatestRevisionDate: 2017-07-18; Publisher: Texas Instruments; PackageReference: DLA0010A; MountType: SMT; Alternate Manufacturer: Texas Instruments
footprint DLA0010A (PQFN, 10-Leads, Body 2x3mm, Pitch 0.5mm)
pins: 1 EN (in), 2 MODE (in), 3 AGND (power), 4 FB (in), 5 PG (oc), 6 VOUT (power), 7 L2, 8 GND (power), 9 L1, 10 VIN (power)

## CMP-0077181-1
designator FID?, comment Fiducial  (value not drawn)
Fiducial mark.  There is nothing to buy or mount.; CompType: Fiducial; Manufacturer: N/A; MountType: N/A; PackageReference: N/A; PartNumber: N/A; ClassName: FiducialMark; Library Reference: Fiducial
footprint Fiducial10-30
footprint Fiducial15-30
footprint Fiducial10-20
footprint Fiducial20-40
footprint Fiducial6.4-20

## CMP-0077236-1
designator ZZ?, comment These assemblies are ESD sensitive, ESD precautions shall be observed.  (no BOM)
CompType: AssemblyNote; ClassName: AssemblyNote; Publisher: Texas Instruments; LatestRevisionDate: 2017-08-10; Key: AssemblyNote
footprint AssemblyNote (Assembly Note)
text: Assembly Note

## CMP-0077237-1
designator ZZ?, comment These assemblies must be clean and free from flux and all contaminants. Use of no clean flux is not acceptable.  (no BOM)
CompType: AssemblyNote; ClassName: AssemblyNote; Publisher: Texas Instruments; LatestRevisionDate: 2017-08-10; Key: AssemblyNote
footprint AssemblyNote (Assembly Note)
text: Assembly Note

## CMP-0077238-1
designator ZZ?, comment These assemblies must comply with workmanship standards IPC-A-610 Class 2, unless otherwise specified.  (no BOM)
CompType: AssemblyNote; ClassName: AssemblyNote; Publisher: Texas Instruments; LatestRevisionDate: 2017-08-10; Key: AssemblyNote
footprint AssemblyNote (Assembly Note)
text: Assembly Note

## CMP-0078699-1
designator C?, comment ValueDisplayed: 47µF  (hidden comment: GRM21BR61A476ME15L)
CAP, CERM, 47 µF, 10 V,+/- 20%, X5R, 0805; Manufacturer: MuRata; TaMin_C: -55°C; Polarized: N; Green_Lifecycle: Active; SizeAreaWB_mm2: 6.75; Green_REACh: Passed; U/M: EA; Value: 47uF; TaMax_C: 85°C; SizeZ_mm: 1.45; SizeX_mm: 2; SizeY_mm: 1.25; Cap_Case: 0805; Value2: 10V; SizeArea_mm2: 2.5; CompType: Capacitor; AEC Category: Q200; ComponentLink1URL: http://search.murata.co.jp/Ceramy/image/img/A01X/G101/ENG/GRM21BR61A476ME15-01.pdf; Supplier Part Number 2: 96Y9273; Supplier 2: Newark; Supplier Part Number 3: 81-GRM21BR61A476ME5L; TempCo: X5R; Supplier 3: Mouser; RoHS: Y; MountType: SMT; Green_EU RoHS-2: Incomplete; Supplier 1: Digi-Key; Green_EU RoHS: Passed; PackageReference: 0805; Tolerance_%: 20%; PartNumber: GRM21BR61A476ME15L; AEC Qualified: N; Cap_F: 47µF; VDC_V: 10V; ComponentLink1Description: Datasheet link; AEC Grade: N/A; Supplier Part Number 1: 490-9961-1-ND; Technology: Ceramic
footprint 0805_HV (0805 with 30mil clearance between pads)
footprint 0805_HV1 (Custom footprint based on analyzing multiple manufacturer recommendations)
footprint 0805 (0805 from SM-752 data)
footprint 0805M (0805 from SM-752 data)
footprint 0805L (0805 from SM-752 data)
pins: 1, 2

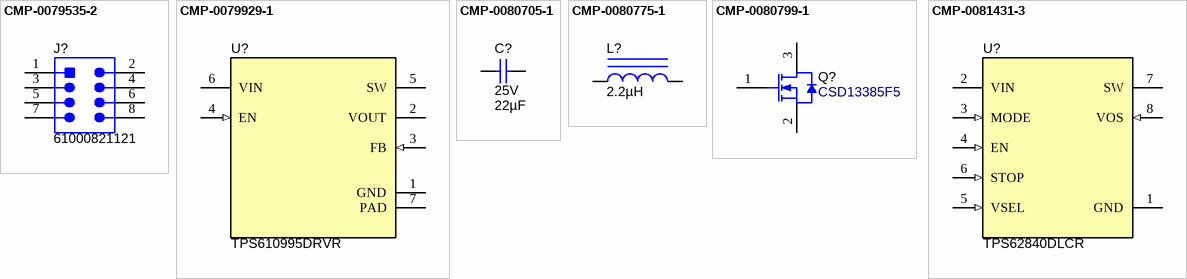
[diagram p1: symbols CMP-0079535-2 to CMP-0081431-3]

## CMP-0079535-2
designator J?, comment 61000821121
Header, 2.54mm, 4x2, Gold, SMT; Manufacturer: Wurth Elektronik; Pitch_mm: 2.54; Gender: Male; Cert_UL: Y; Current_A: 3A; Voltage_V: 250V; Shrouded: N; Row_Count: 2; ComponentLink1Description: Datasheet URL; RoHS: Y; Supplier Part Number 3: 710-61000821121; Supplier 1: Digi-Key; Orientation: Vertical; PackageReference: Header, 2.54mm, 4x2, SMT; Color: Black; PartNumber: 61000821121; PinCount: 8; Supplier Part Number 2: 20X0851; ContactFinish: Gold; Supplier 2: Newark; ClassName: Header; RowSpacing_mm: 2.54; ComponentLink1URL: http://katalog.we-online.de/em/datasheet/6100xx21121.pdf; CompType: Header; MountType: SMT; Supplier Part Number 1: 732-5462-5-ND; Supplier 3: Mouser
footprint Wurth_61000821121 (Header, 2.54mm, 4x2, SMT)
pins: 1, 2, 3, 4, 5, 6, 7, 8
1 alternate drawing of the same symbol

## CMP-0079929-1
designator U?, comment TPS610995DRVR
Synchronous Boost Converter with 800 nA Ultra-Low Quiescent Current, DRV0006A (WSON-6); Alternate PartNumber: TPS610995DRVT; Alternate Manufacturer: Texas Instruments; SizeAreaWB_mm2: 9; SizeZ_mm: 0.8; SizeX_mm: 2; SizeArea_mm2: 4; CompType: IC; AEC Qualified: N; AEC Category: Q200; ComponentLink1URL: http://www.ti.com/lit/ds/symlink/tps61099.pdf; PackageDescription: WSON-6; MountType: SMT; ComponentLink2URL: http://www.ti.com/product/tps61099; ComponentLink3Description: Online Datasheet; ComponentLink2Description: Product Folder; Manufacturer: Texas Instruments; ComponentLink3URL: http://www.ti.com/product/tps61099/datasheet; PackageReference: DRV0006A; SizeY_mm: 2; PartNumber: TPS610995DRVR; ComponentLink1Description: Datasheet Link
footprint DRV0006A (SON, 6-Leads, Body 2x2mm, Pitch 0.65mm, Thermal Pad 1.6x1mm, TI Recommended)
footprint DRV0006A_NV (SON, 6-Leads, Body 2x2mm, Pitch 0.65mm, Thermal Pad 1.6x1mm, TI Recommended)
pins: 1 GND (power) "IC power ground", 2 VOUT (power) "Boost converter output", 3 FB (in) "Load switch or LDO output", 4 EN (in) "Mode selection pin. 1: Active mode; 0: Sleep mode", 5 SW (power) "Connection for Inductor", 6 VIN (power) "IC power supply input", 7 PAD (power)

## CMP-0080705-1
designator C?, comment VDC_V: 25V  ValueDisplayed: 22µF  (hidden comment: TMK212B7225KG-TR)
CAP, CERM, 22 µF, 25 V,+/- 10%, X7R, 0805; Manufacturer: Taiyo Yuden; SizeAreaWB_mm2: 6.75; SizeArea_mm2: 2.5; AEC Qualified: N; AEC Category: Q200; Value: 22uF; TaMax_C: 125°C; SizeZ_mm: 1.45; TaMin_C: -55°C; SizeY_mm: 1.25; U/M: EA; CompType: Capacitor; SizeX_mm: 2; Cap_Case: 0805; ComponentLink1Description: Datasheet link; Cap_F: 22µF; RoHS: Y; Supplier Part Number 3: 963-TMK212B7225KG-TR; Tolerance_%: 10%; Supplier 1: Digi-Key; PackageReference: 0805; Technology: Ceramic; PartNumber: TMK212B7225KG-TR; TempCo: X7R; Supplier Part Number 2: 92T9715; Supplier 2: Newark; AEC Grade: N/A; Polarized: N; Value2: 25V; ComponentLink1URL: https://www.yuden.co.jp/productdata/catalog/mlcc_all_e.pdf; MountType: SMT; Supplier Part Number 1: 587-2991-1-ND; Supplier 3: Mouser
footprint 0805_HV (0805 with 30mil clearance between pads)
footprint 0805_HV1 (Custom footprint based on analyzing multiple manufacturer recommendations)
footprint 0805 (0805 from SM-752 data)
footprint 0805M (0805 from SM-752 data)
footprint 0805L (0805 from SM-752 data)
pins: 1, 2

## CMP-0080775-1
designator L?, comment ValueDisplayed: 2.2µH  (hidden comment: DFE201612E-2R2M=P2)
Inductor, Shielded, Metal Composite, 2.2 µH, 1.8 A, 0.116 ohm, SMD; Manufacturer: MuRata; Isat: 2.4A @ 30% inductance drop; Irms: 1.8A @ 40C rise; SizeAreaWB_mm2: 7.8; DCR_ohm: 1.16d; Value: 2.2uH; Imax_A: 1.8A; SizeZ_mm: 1.2; SizeX_mm: 2; SizeY_mm: 1.6; SizeArea_mm2: 3.2; AEC Qualified: N; AEC Category: Q200; ComponentLink1URL: http://www.murata.com/~/media/webrenewal/products/inductor/chip/tokoproducts/wirewoundmetalalloychiptype/m_dfe201612e.ashx?la=en-us; RoHS: Y; Value1: 0.116 ohm; Material: Metal Composite; MountType: SMT; PackageReference: 2x1.6mm; Value2: 1.8A; CompType: Inductor; Ind_H: 2.2µH; PartNumber: DFE201612E-2R2M=P2; ComponentLink1Description: Datasheet link; AEC Grade: N/A; Technology: Shielded
footprint DFE201612E (MuRata recommended)
pins: 1, 2

## CMP-0080799-1
designator Q?, comment CSD13385F5
MOSFET, N-CH, 12 V, 4.3 A, YJK0003A (PICOSTAR-3); Alternate Manufacturer: None; Manufacturer: Texas Instruments; Rdson45_ohm: 0.019; QgTyp_nC: 3.9; SizeAreaWB_mm2: 4.3077; Vgs_V: 8V; Value1: 0.019 ohm; VdsMax_V: 12V; Value: 12V; IdsMax_A: 4.3A; SizeZ_mm: 0.35; SizeX_mm: 1.49; SizeY_mm: 0.73; Value2: 3.9 nC; SizeArea_mm2: 1.0877; ChType: N; AEC Category: Q101; ComponentLink1URL: http://www.ti.com/lit/ds/symlink/csd13385f5.pdf; Supplier Part Number 2: 595-CSD13385F5; Supplier 2: Mouser; RoHS: Y; MountType: SMT; Supplier 1: Digi-Key; PackageReference: YJK0003A; CompType: MOSFET; PartNumber: CSD13385F5; AEC Qualified: N; ComponentLink1Description: Datasheet link; Supplier Part Number 1: 296-47751-1-ND
footprint YJK0003A (SMD, 3-Leads, Body 1.49x0.73mm)
pins: 1 G, 2 S, 3 D

## CMP-0081431-3
designator U?, comment TPS62840DLCR
Ultra low IQ Step Down Converter, DLC0008A (VSON-HR-8); Alternate Manufacturer: Texas Instruments; SizeAreaWB_mm2: 7.5; SizeZ_mm: 1; SizeX_mm: 1.5; SizeY_mm: 2; SizeArea_mm2: 3; CompType: IC; AEC Qualified: N; AEC Category: Q200; ComponentLink1URL: http://www.ti.com/lit/ds/symlink/tps62840.pdf; PackageDescription: VSON-HR-8; MountType: SMT; ComponentLink2URL: http://www.ti.com/product/tps62840; ComponentLink3Description: Online Datasheet; ComponentLink2Description: Product Folder; Manufacturer: Texas Instruments; ComponentLink3URL: http://www.ti.com/product/tps62840/datasheet; PackageReference: DLC0008A; ComponentLink1Description: Datasheet Link; Operating Temperature Range: -40 to 125 C; PartNumber: TPS62840DLCR
footprint DLC0008B (VSON-HR-8)
pins: 1 GND (power), 2 VIN (power), 3 MODE (in), 4 EN (in), 5 VSEL (in), 6 STOP (in), 7 SW (power), 8 VOS (in)